# Altium footprint library SOP50P1030X247-39N.PcbLib: 1 footprints
Each footprint in its own frame and in the unit in brackets; x right, y up, seen from the top. Pads: shape width x height; smd on the part's side, far side on the other; paste and mask are expansions set on the pad; w line width, h text height; cw(c..) or ccw(c..) is an arc to the next point about the centre after c.
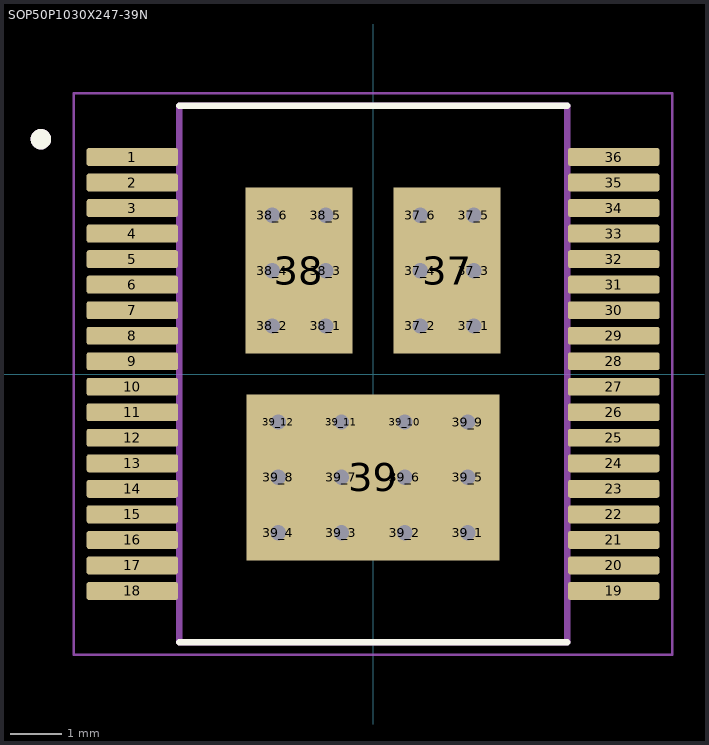
[diagram p0: the footprint, top view; thin cyan lines are the x and y axes]

## SOP50P1030X247-39N [mm]
pads (63):
  rrect25% 1.79x0.35 smd: 1(-4.715,4.25) 2(-4.715,3.75) 3(-4.715,3.25) 4(-4.715,2.75) 5(-4.715,2.25) 6(-4.715,1.75) 7(-4.715,1.25) 8(-4.715,0.75) 9(-4.715,0.25) 10(-4.715,-0.25) 11(-4.715,-0.75) 12(-4.715,-1.25) 13(-4.715,-1.75) 14(-4.715,-2.25) 15(-4.715,-2.75) 16(-4.715,-3.25) 17(-4.715,-3.75) 18(-4.715,-4.25) 19(4.715,-4.25) 20(4.715,-3.75) 21(4.715,-3.25) 22(4.715,-2.75) 23(4.715,-2.25) 24(4.715,-1.75) 25(4.715,-1.25) 26(4.715,-0.75) 27(4.715,-0.25) 28(4.715,0.25) 29(4.715,0.75) 30(4.715,1.25) 31(4.715,1.75) 32(4.715,2.25) 33(4.715,2.75) 34(4.715,3.25) 35(4.715,3.75) 36(4.715,4.25)
  rect 2.1x3.25 smd paste-3: 37(1.45,2.025) 38(-1.45,2.025)
  rect 0.808x0.808 / inner round 0.808 / far side rect 0.808x0.808 hole 0.3: 37_1(1.975,0.942) 37_2(0.925,0.942) 37_3(1.975,2.025) 37_4(0.925,2.025) 37_5(1.975,3.108) 37_6(0.925,3.108) 38_1(-0.925,0.942) 38_2(-1.975,0.942) 38_3(-0.925,2.025) 38_4(-1.975,2.025) 38_5(-0.925,3.108) 38_6(-1.975,3.108) 39_1(1.856,-3.108) 39_2(0.619,-3.108) 39_3(-0.619,-3.108) 39_4(-1.856,-3.108) 39_5(1.856,-2.025) 39_6(0.619,-2.025) 39_7(-0.619,-2.025) 39_8(-1.856,-2.025) 39_9(1.856,-0.942) 39_10(0.619,-0.942) 39_11(-0.619,-0.942) 39_12(-1.856,-0.942)
  rect 4.95x3.25 smd paste-3: 39(0,-2.025)
Top Overlay:
  circle w0.2: c-6.505,4.6 r0.1
  lines w0.127: -3.8,-5.25 3.8,-5.25 ; -3.8,5.25 3.8,5.25
Top Paste:
  region: 1.75,-3.174 -1.75,-3.174 -1.75,-0.876 1.75,-0.876
  region: 2.192,0.876 0.708,0.876 0.708,3.174 2.192,3.174
  region: -0.708,0.876 -2.192,0.876 -2.192,3.174 -0.708,3.174
Assembly Top:
  circle w0.2: c-6.505,4.6 r0.1
  lines w0.127: -3.8,-5.25 3.8,-5.25 3.8,5.25 -3.8,5.25 -3.8,-5.25
Courtyard Top:
  lines w0.05: -5.86,-5.5 5.86,-5.5 5.86,5.5 -5.86,5.5 -5.86,-5.5
3D body "step_temp.STEP": height 2.47, standoff 0, extent -5.15,-5.15 5.15,5.15